# EAGLE library part CON-MOLEX_22-23-2061 (library RVschwarzenegger_Controller_RevA)
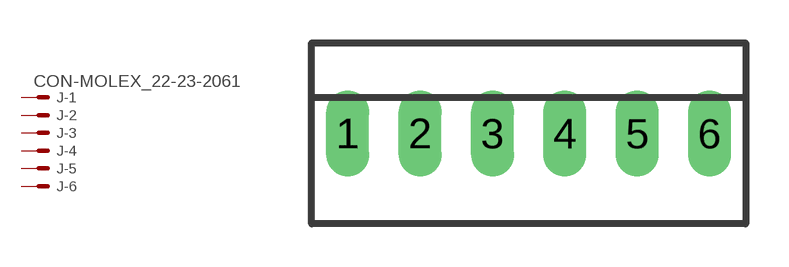
[diagram p1: symbol with the pads of CON-MOLEX_22-23-2061; footprint CON-MOLEX_22-23-2061]

Designator prefix J; gates -1=CON-MOLEX_MV -2=CON-MOLEX_M -3=CON-MOLEX_M -4=CON-MOLEX_M -5=CON-MOLEX_M -6=CON-MOLEX_M

## CON-MOLEX_22-23-2061  [CON-MOLEX_22-23-2061]
1  -1:S  pas
2  -2:S  pas
3  -3:S  pas
4  -4:S  pas
5  -5:S  pas
6  -6:S  pas

## Footprint CON-MOLEX_22-23-2061 (pad centres in mm)
drill 1 long: 1 -6.35,0; 2 -3.81,0; 3 -1.27,0; 4 1.27,0; 5 3.81,0; 6 6.35,0